# EAGLE library part ATMEGA328P (library quentin)
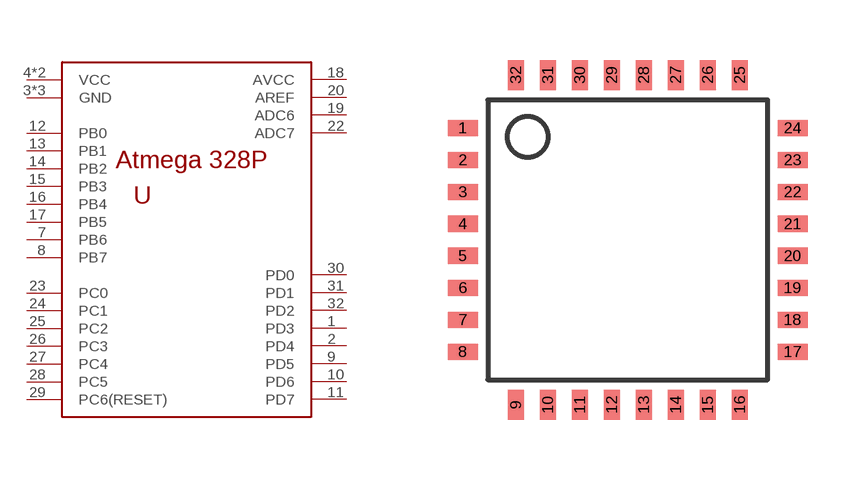
[diagram p19: symbol with the pads of TQFP-32; footprint TQFP-32]

Designator prefix -

## ATMEGA328P-A  [TQFP-32]
1  PD3
2  PD4
3  GND
4  VCC
5  GND
6  VCC
7  PB6
8  PB7
9  PD5
10  PD6
11  PD7
12  PB0
13  PB1
14  PB2
15  PB3
16  PB4
17  PB5
18  AVCC
19  ADC6
20  AREF
21  GND
22  ADC7
23  PC0
24  PC1
25  PC2
26  PC3
27  PC4
28  PC5
29  PC6(RESET)
30  PD0
31  PD1
32  PD2

## Footprint TQFP-32 (pad centres in mm)
smd 0.75 x 0.4: 1 -1.325,6.925; 2 -1.325,6.125; 3 -1.325,5.325; 4 -1.325,4.525; 5 -1.325,3.725; 6 -1.325,2.925; 7 -1.325,2.125; 8 -1.325,1.325; 17 6.925,1.325; 18 6.925,2.125; 19 6.925,2.925; 20 6.925,3.725; 21 6.925,4.525; 22 6.925,5.325; 23 6.925,6.125; 24 6.925,6.925
smd 0.4 x 0.75: 9 0,0; 10 0.8,0; 11 1.6,0; 12 2.4,0; 13 3.2,0; 14 4,0; 15 4.8,0; 16 5.6,0; 25 5.6,8.25; 26 4.8,8.25; 27 4,8.25; 28 3.2,8.25; 29 2.4,8.25; 30 1.6,8.25; 31 0.8,8.25; 32 0,8.25